# EAGLE library part SMF05C (library TVS_diodes)
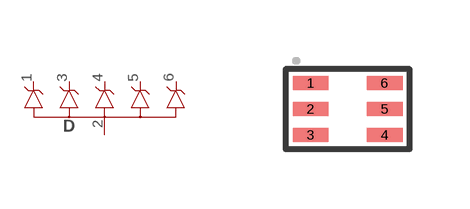
[diagram p0: symbol with the pads of SC70_6L; footprint SC70_6L]

Designator prefix D

## SMF05C (DIGIKEY#: SMF05CCT-ND; MANF: Semtech Corporation; MANF#: SMF05C.TCT)  [SC70_6L]
1  D1
2  G
3  D2
4  D3
5  D4
6  D5

## Footprint SC70_6L (pad centres in mm)
smd 0.9 x 0.35: 1 -0.925,0.65; 2 -0.925,0; 3 -0.925,-0.65; 4 0.925,-0.65; 5 0.925,0; 6 0.925,0.65